# Altium schematic symbol library Resistor.SchLib: 60 symbols (part 2 of 2)
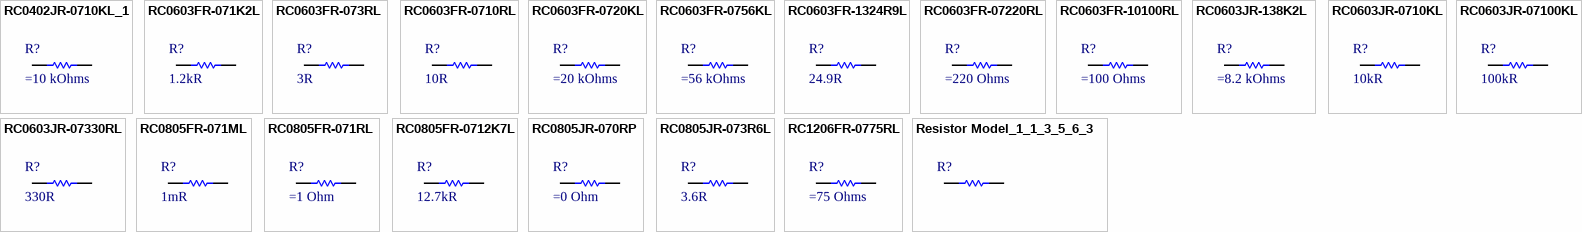
[diagram p2: symbols RC0402JR-0710KL_1 to Resistor Model_1_1_3_5_6_3]

## RC0603JR-07100KL
designator R?, comment 100kR
RES SMD 100K OHM 5% 1/10W 0603; Manufacturer: Yageo; Part Number: RC0603JR-07100KL; Temperature Coefficient: 100 PPM / C; Power Rating: 100 mW (1/10 W); Voltage Rating: 75 V; Library Control - Checked Footprint: No; Library Control - Person that did the Last Update Footprint: Dalarme; Supplier 1: Mouser; Category: Thick Film Resistors - SMD; Price: 1=0,10, 10=0,015, 100=0,005 (USD); Package / Case: 0603 (1608 Metric); Operating Temperature: - 55ºC ~ 155ºC; Value: 100kR; Tolerance: 5%; Mouser Link: https://br.mouser.com/ProductDetail/Yageo/RC0603JR-07100KL?qs=2cAdsCoAWRG9Rhqklpdeqg%3D%3D; Library Ref: Resistor; Datasheet: https://br.mouser.com/datasheet/2/447/Yageo_03_18_2021_PYu_RC_Group_51_RoHS_L_11-2199992.pdf; Resistor Type: Thick Film Resistors; Size / Dimension: 2 mm L x  1.25 mm W x  0.6 mm H; Supplier Part Number 1: 603-RC0603JR-07100KL; Library Control - Checked Schematic: No; Library Control - Last Update: 10/06/21 12:00; Library Control - Person that did the Last Update Schematic: Dalarme
pins: 1, 2

## RC0603JR-07330RL
designator R?, comment 330R
RES SMD 330 OHM 5% 1/10W 0603; Manufacturer: Yageo; Part Number: RC0603JR-07330RL; Temperature Coefficient: 100 PPM / C; Power Rating: 100 mW (1/10 W); Voltage Rating: 75 V; Library Control - Checked Footprint: No; Library Control - Person that did the Last Update Footprint: Dalarme; Supplier 1: Mouser; Category: Thick Film Resistors - SMD; Price: 1=0,10, 10=0,015, 100=0,005 (USD); Package / Case: 0603 (1806Metric); Operating Temperature: - 55ºC ~ 155ºC; Value: 330R; Tolerance: 5 %; Mouser Link: https://br.mouser.com/ProductDetail/Yageo/RC0603JR-07330RL?qs=P6JsaOY39iiskIKe5bFlJA%3D%3D; Library Ref: Resistor; Datasheet: https://br.mouser.com/datasheet/2/447/Yageo_03_18_2021_PYu_RC_Group_51_RoHS_L_11-2199992.pdf; Resistor Type: Thick Film Resistors; Size / Dimension: 1.6 mm L x  0.8 mm W x  0.45 mm H; Supplier Part Number 1: RC0603JR-07330RL; Library Control - Checked Schematic: No; Library Control - Last Update: 10/06/21 12:00; Library Control - Person that did the Last Update Schematic: Dalarme
pins: 1, 2

## RC0805FR-071ML
designator R?, comment 1mR
RES SMD 1M OHM 1% 1/8W 0805; Manufacturer: Yageo; Part Number: RC0805FR-071ML; Temperature Coefficient: 100 PPM / C; Power Rating: 125 mW (1/8 W); Voltage Rating: 150 V; Library Control - Checked Footprint: No; Library Control - Person that did the Last Update Footprint: Dalarme; Supplier 1: Mouser; Category: Thick Film Resistors - SMD; Price: 1=0,1, 10=0,04, 100=0,016 (USD); Package / Case: 0805 (2012 Metric); Operating Temperature: - 55ºC ~ 155ºC; Value: 1mR; Tolerance: 1 %; Mouser Link: https://www.mouser.com/ProductDetail/Yageo/RC0805FR-071ML?qs=%2Fha2pyFadug6QMX%2FAz0ggy676kqJeVfz3v%252BfCGhkOwd5E%252BJJshLQVQ==; Library Ref: Resistor; Datasheet: https://www.mouser.com/datasheet/2/447/Yageo_03_18_2021_PYu_RC_Group_51_RoHS_L_11-2199992.pdf; Resistor Type: Thick Film Resistors; Size / Dimension: 2 mm L x  1.25 mm W x  0.6 mm H; Supplier Part Number 1: 603-RC0805FR-071ML; Library Control - Checked Schematic: No; Library Control - Last Update: 10/06/21 12:00; Library Control - Person that did the Last Update Schematic: Dalarme
pins: 1, 2

## RC0805FR-071RL
designator R?
RES SMD 1 OHM 1% 1/8W 0805; Manufacturer: Yageo; Part Number: RC0805FR-071RL; Value: 1 Ohm; Temperature Coefficient: 200 PPM / C; Voltage Rating: 150 V; Supplier 1: Mouser; Category: Thick Film Resistors - SMD; Price: 1 = 0.1; 10 = 0.06; 100 = 0.021; 1000 = 0.013 (USD); Package / Case: 0805; Operating Temperature: - 55 C/ + 155 C; Tolerance: 1 %; Power Rating: 1/8 W; Mouser Link: https://br.mouser.com/ProductDetail/Yageo/RC0805FR-071RL?qs=8Y8p%252BasKcI5LWCyYnPKX0w%3D%3D; Library Ref: Resistores; Datasheet: https://br.mouser.com/datasheet/2/447/Yageo_03_18_2021_PYu_RC_Group_51_RoHS_L_11-2199992.pdf; Resistor Type: Fixo; Size / Dimension: 2.0/1.2 (mm); Supplier Part Number 1: 603-RC0805FR-071RL
pins: 1, 2

## RC0805FR-0712K7L
designator R?, comment 12.7kR
RES SMD 12.7K OHM 1% 1/8W 0805; Manufacturer: Yageo; Part Number: RC0805FR-0712K7L; Temperature Coefficient: 100 PPM / C; Power Rating: 125 mW (1/8 W); Voltage Rating: 150 V; Library Control - Checked Footprint: No; Library Control - Person that did the Last Update Footprint: Dalarme; Supplier 1: Mouser; Category: Thick Film Resistors - SMD; Price: 1=0,10, 10=0,036, 100=0,013 (USD); Package / Case: 0805 (2012 Metric); Operating Temperature: - 55ºC ~ 155ºC; Value: 12.7kR; Tolerance: 1 %; Mouser Link: https://br.mouser.com/ProductDetail/Yageo/RC0805FR-0712K7L?qs=%2Fha2pyFadug6QMX%2FAz0ggy676kqJeVfzaaTNx0beTz55UL8CNdxkhUp2slxprCdz; Library Ref: Resistor; Datasheet: https://br.mouser.com/datasheet/2/447/Yageo_03_18_2021_PYu_RC_Group_51_RoHS_L_11-2199992.pdf; Resistor Type: Thick Film Resistors SMD; Size / Dimension: 2 mm L x  1.25 mm W x  0.5 mm H; Supplier Part Number 1: 603-RC0805FR-0712K7L; Library Control - Checked Schematic: No; Library Control - Last Update: 10/06/21 12:00; Library Control - Person that did the Last Update Schematic: Dalarme
pins: 1, 2

## RC0805JR-070RP
designator R?
RES SMD 0 OHM 5% 1/8W 0805; Manufacturer: Yageo; Part Number: RC0805JR-070RP; Value: 0 Ohm; Temperature Coefficient: 200 PPM/ C; Voltage Rating: 150 V; Supplier 1: Mouser; Category: Thick Film Resistors - SMD; Price: 1 = 0.22; 10 = 0.053; 100 = 0.018; 1000 = 0.014; Package / Case: 0805; Operating Temperature: - 55 C/ + 155 C; Tolerance: 5 %; Power Rating: 1/8 W; Mouser Link: https://br.mouser.com/ProductDetail/Yageo/RC0805JR-070RP?qs=oypCK0zG3262sPkc1DiGRg%3D%3D; Library Ref: Resistores; Datasheet: https://br.mouser.com/datasheet/2/447/Yageo_03_18_2021_PYu_RC_Group_51_RoHS_L_11-2199992.pdf; Resistor Type: Thick Film Resistors; Size / Dimension: 2.0/1.2 (mm); Supplier Part Number 1: 603-RC0805JR-070RP
pins: 1, 2

## RC0805JR-073R6L
designator R?, comment 3.6R
RES SMD 3.6 OHM 5% 1/8W 0805; Manufacturer: Yageo; Part Number: RC0805JR-073R6L; Temperature Coefficient: 200 PPM / C; Power Rating: 125 mW (1/8 W); Voltage Rating: 150 V; Library Control - Checked Footprint: No; Library Control - Person that did the Last Update Footprint: Dalarme; Supplier 1: Mouser; Category: Thick Film Resistors - SMD; Price: 1=0,22, 10=0,052, 100=0,018 (USD); Package / Case: 0805 (2012 Metric); Operating Temperature: - 55ºC ~ 155ºC; Value: 3.6R; Tolerance: 5 %; Mouser Link: https://br.mouser.com/ProductDetail/Yageo/RC0805JR-073R6L?qs=%2Fha2pyFadug6QMX%2FAz0gg6vDQGdS7CAkCQQPGuSvuCE1NeYb1xSVR9wH6bdWx1Yz; Library Ref: Resistor; Datasheet: https://br.mouser.com/datasheet/2/447/Yageo_03_18_2021_PYu_RC_Group_51_RoHS_L_11-2199992.pdf; Resistor Type: Thick Film Resistors; Size / Dimension: 2 mm L x  1.25 mm W x  0.6 mm H; Supplier Part Number 1: 603-RC0805JR-073R6L; Library Control - Checked Schematic: No; Library Control - Last Update: 10/06/21 12:00; Library Control - Person that did the Last Update Schematic: Dalarme
pins: 1, 2

## RC1206FR-0775RL
designator R?
RES SMD 75 OHM 1% 1/4W 1206; Manufacturer: Yageo; Part Number: RC1206FR-0775RL; Value: 75 Ohms; Temperature Coefficient: 100 PPM / C; Voltage Rating: 200 V; Supplier 1: Mouser; Category: Thick Film Resistors - SMD; Price: 1 = 0.1; 10 = 0.054; 100 = 0.021; 1000 = 0.012 (USD); Package / Case: 1206; Operating Temperature: - 55 C/ + 155 C; Tolerance: 1 %; Power Rating: 1/4 W; Mouser Link: https://br.mouser.com/ProductDetail/Yageo/RC1206FR-0775RL?qs=afJZr%2F7kGG4KmMC4hsrAjg%3D%3D; Library Ref: Resistores; Datasheet: https://br.mouser.com/datasheet/2/447/Yageo_03_18_2021_PYu_RC_Group_51_RoHS_L_11-2199992.pdf; Resistor Type: Fixo; Size / Dimension: 3.1/1.6 (mm); Supplier Part Number 1: 603-RC1206FR-0775RL
pins: 1, 2

## Resistor Model_1_1_3_5_6_3
designator R?
RES SMD 1.05K OHM 0.1% 1/10W 0603; Library Control - Checked Footprint: No; Library Control - Person that did the Last Update Footprint: Dalarme; Supplier 1: Mouser; Price: 1=0,, 10=0,, 100=0, (USD); Package / Case: 0805 (2012 Metric); Operating Temperature: - 55ºC ~ 155ºC; Library Ref: Resistor; Size / Dimension: 2 mm L x  1.25 mm W x  0.6 mm H; Library Control - Checked Schematic: No; Library Control - Last Update: 10/06/21 12:00; Library Control - Person that did the Last Update Schematic: Dalarme
pins: 1, 2